# Altium schematic symbol library GG0402052R542P.SchLib: 1 symbol
Pins are listed as number, name and electrical type; pins without a type are passive.

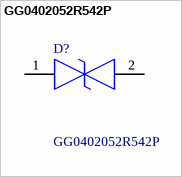
[diagram p0: symbol GG0402052R542P]

## GG0402052R542P
designator D?
ESD Suppressors / TVS Diodes SMP Diode 0402 5vdc 2.5 pf <12v clamp@1a; Manufacturer_Name: Kyocera AVX; Geometry.Height: 0.55mm; Mouser Part Number: 581-GG0402052R542P; Mouser Price/Stock: https://www.mouser.co.uk/ProductDetail/KYOCERA-AVX/GG0402052R542P?qs=AQlKX63v8RvyHtzj%2F7p1Bg%3D%3D; Manufacturer_Part_Number: GG0402052R542P; Datasheet Link: *
footprint DIONC1006X55N
pins: 1, 2